# Altium footprint library USB4085-GF-A.PcbLib: 1 footprints
Each footprint in its own frame and in the unit in brackets; x right, y up, seen from the top. Pads: shape width x height; smd on the part's side, far side on the other; paste and mask are expansions set on the pad; w line width, h text height; cw(c..) or ccw(c..) is an arc to the next point about the centre after c.
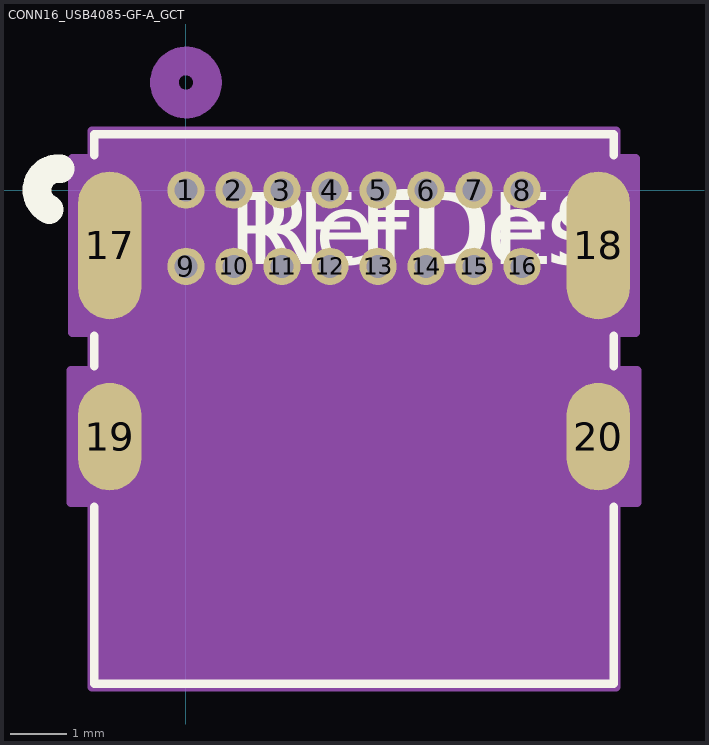
[diagram p0: the footprint, top view; thin cyan lines are the x and y axes]

## CONN16_USB4085-GF-A_GCT [mil]
pads (20):
  round 26 / inner round 60 / far side round 26 hole 16 paste-13 mask+0: 1(0,0) 2(33.46,0) 3(66.93,0) 4(100.39,0) 5(133.86,0) 6(167.32,0) 7(200.79,0) 8(234.25,0) 9(0,-53.15) 10(33.46,-53.15) 11(66.93,-53.15) 12(100.39,-53.15) 13(133.86,-53.15) 14(167.32,-53.15) 15(200.79,-53.15) 16(234.25,-53.15)
  oval 44x103 / inner round 60 / far side oval 44x103 all layers, no hole paste-51.5 mask+0: 17(-53.15,-38.58) 18(287.4,-38.58)
  oval 44x75 / inner round 60 / far side oval 44x75 all layers, no hole paste-37.5 mask+0: 19(-53.15,-171.85) 20(287.4,-171.85)
Top Overlay:
  lines w6: -63.87,-220.77 -63.87,-344.14 298.13,-344.14 298.13,-220.77 ; -63.87,-122.93 -63.87,-101.5 ; -63.87,24.34 -63.87,38.86 298.13,38.86 298.13,24.34 ; 298.13,-122.93 298.13,-101.5
  lines w20: -95.25,-13.58 cw(c-88.87,0) -87.71,14.95
  text "RefDes" at 42.13,-51.57 h50
  text "REFDES" at 29.63,-51.57 h50
Bottom Overlay:
  circle w20: c-88.87,0 r15
Mechanical 13:
  circle w20: c0,75 r15
  lines w1: -58.87,-339.14 293.13,-339.14 293.13,33.86 -58.87,33.86 -58.87,-339.14
  text "RefDes2" at 29.63,-51.57 h50
Mechanical 15:
  region: -65.74,-217.98 -65.74,-346.41 299.99,-346.41 299.99,-217.98 314.46,-217.98 314.46,-125.73 299.99,-125.73 299.99,-99.28 313.33,-99.28 313.33,22.11 299.99,22.11 299.99,41.13 -65.74,41.13 -65.74,22.11 -79.08,22.11 -79.08,-99.28 -65.74,-99.28 -65.74,-125.73 -80.21,-125.73 -80.21,-217.98
  lines w6: -80.21,-217.98 -65.74,-217.98 -65.74,-346.41 299.99,-346.41 299.99,-217.98 314.46,-217.98 314.46,-125.73 299.99,-125.73 299.99,-99.28 313.33,-99.28 313.33,22.11 299.99,22.11 299.99,41.13 -65.74,41.13 -65.74,22.11 -79.08,22.11 -79.08,-99.28 -65.74,-99.28 -65.74,-125.73 -80.21,-125.73 -80.21,-217.98